# Altium footprint library IC_BASE16PIN.PcbLib: 1 footprints
Each footprint in its own frame and in the unit in brackets; x right, y up, seen from the top. Pads: shape width x height; smd on the part's side, far side on the other; paste and mask are expansions set on the pad; w line width, h text height; cw(c..) or ccw(c..) is an arc to the next point about the centre after c.
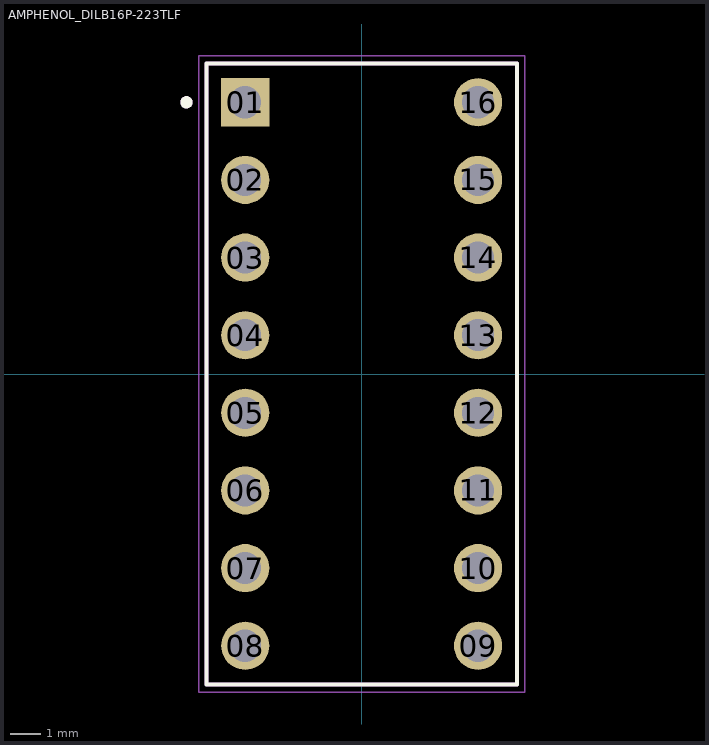
[diagram p0: the footprint, top view; thin cyan lines are the x and y axes]

## AMPHENOL_DILB16P-223TLF [mm]
height 5.25
pads (16):
  rect 1.575x1.575 hole 1.05: 01(-3.81,8.89)
  round 1.575 hole 1.05: 02(-3.81,6.35) 03(-3.81,3.81) 04(-3.81,1.27) 05(-3.81,-1.27) 06(-3.81,-3.81) 07(-3.81,-6.35) 08(-3.81,-8.89) 09(3.81,-8.89) 10(3.81,-6.35) 11(3.81,-3.81) 12(3.81,-1.27) 13(3.81,1.27) 14(3.81,3.81) 15(3.81,6.35) 16(3.81,8.89)
Top Overlay:
  circle w0.2: c-5.73,8.89 r0.1
  lines w0.127: -5.08,-10.16 -5.08,10.16 5.08,10.16 5.08,-10.16 -5.08,-10.16
Mechanical 13:
  circle w0.2: c-5.73,8.89 r0.1
  lines w0.127: -5.08,-10.16 5.08,-10.16 5.08,10.16 -5.08,10.16 -5.08,-10.16
Mechanical 15:
  lines w0.05: -5.33,-10.41 -5.33,10.41 5.33,10.41 5.33,-10.41 -5.33,-10.41
3D body "step_temp.STEP": height 5.25, standoff -3.45, extent -5.207,-9.906 4.953,10.414